# Altium footprint library Mosfet_Pcb.PcbLib: 5 footprints
Each footprint in its own frame and in the unit in brackets; x right, y up, seen from the top. Pads: shape width x height; smd on the part's side, far side on the other; paste and mask are expansions set on the pad; w line width, h text height; cw(c..) or ccw(c..) is an arc to the next point about the centre after c.
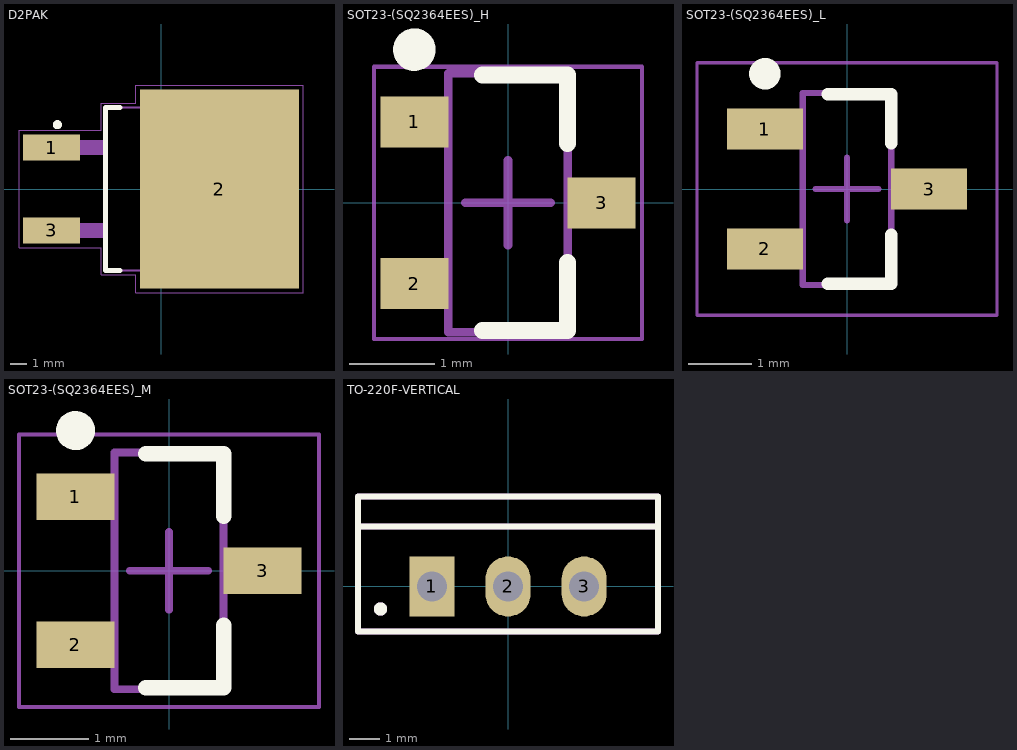
[diagram p0: the footprints below, top view; thin cyan lines are the x and y axes]

## D2PAK [mm]
pads (3):
  rect 3.5x1.6 smd: 1(-6.7,2.54) 3(-6.7,-2.54)
  rect 9.75x12.2 smd paste-7: 2(3.575,0)
Top Overlay:
  circle w0.3: c-6.35,3.937 r0.127
  lines w0.3: -2.515,-5 -3.4,-5 -3.4,5 -2.515,5
Top Paste:
  region: 7.22,0.295 5.85,0.295 5.85,1.765 7.22,1.765
  region: 7.22,-1.766 5.844,-1.766 5.844,-0.295 7.22,-0.295
  region: 5.25,-1.767 3.875,-1.767 3.875,-0.295 5.25,-0.295
  region: 5.25,0.295 3.876,0.295 3.876,1.765 5.25,1.765
  region: 5.25,2.362 3.874,2.362 3.874,3.83 5.25,3.83
  region: 7.22,2.362 5.844,2.362 5.844,3.83 7.22,3.83
  region: 5.25,-3.836 3.876,-3.836 3.876,-2.36 5.25,-2.36
  region: 7.22,-3.837 5.85,-3.837 5.85,-2.36 7.22,-2.36
  region: 1.31,-1.767 -0.07,-1.767 -0.07,-0.295 1.31,-0.295
  region: 1.31,0.296 -0.07,0.296 -0.07,1.765 1.31,1.765
  region: 3.28,0.295 1.902,0.295 1.902,1.765 3.28,1.765
  region: 3.28,-1.766 1.902,-1.766 1.902,-0.295 3.28,-0.295
  region: 3.28,-3.835 1.902,-3.835 1.902,-2.36 3.28,-2.36
  region: 1.31,-3.834 -0.07,-3.834 -0.07,-2.36 1.31,-2.36
  region: 3.28,2.362 1.901,2.362 1.901,3.83 3.28,3.83
  region: 1.31,2.362 -0.07,2.362 -0.07,3.83 1.31,3.83
Mechanical 13:
  region: -3.4,2.094 -8.215,2.094 -8.215,2.99 -3.4,2.99
  region: -3.4,-2.996 -8.216,-2.996 -8.216,-2.09 -3.4,-2.09
  lines w0.127: -3.4,-5 7.4,-5 7.4,5 -3.4,5 -3.4,-5
Mechanical 15:
  lines w0.05: -8.7,-3.6 -3.65,-3.6 -3.65,-5.25 -1.55,-5.25 -1.55,-6.35 8.7,-6.35 8.7,6.35 -1.55,6.35 -1.55,5.25 -3.65,5.25 -3.65,3.6 -8.7,3.6 -8.7,-3.6
3D body "D2PAK-3-lead(TO-263-3).step": height 4.87, standoff 0, extent -7.64,-5.08 6.59,5.08

## SOT23-(SQ2364EES)_H [mm]
height 1.12
pads (3):
  rect 0.8x0.6 smd: 1(-1.1,0.95) 2(-1.1,-0.95) 3(1.1,0)
Top Overlay:
  circle w0.25: c-1.1,1.8 r0.125
  lines w0.2: -0.3,-1.5 0.7,-1.5 0.7,-0.7 ; -0.3,1.5 0.7,1.5 0.7,0.7
Mechanical 13:
  lines w0.1: -0.7,-1.52 -0.7,1.52 0.7,1.52 0.7,-1.52 -0.7,-1.52
  text "'.designator'" at -0.312,1.5 h1
Mechanical 15:
  lines w0.05: -1.575,-1.6 -1.575,1.6 1.575,1.6 1.575,-1.6 -1.575,-1.6
  lines w0.1: -0.5,0 0.5,0 ; 0,-0.5 0,0.5
3D body "SOT23-3.stp": height 1.01, standoff 0.01, extent -1.1,-1.45 1.2,1.45

## SOT23-(SQ2364EES)_L [mm]
height 1.12
pads (3):
  rect 1.2x0.65 smd: 1(-1.3,0.95) 2(-1.3,-0.95) 3(1.3,0)
Top Overlay:
  circle w0.25: c-1.3,1.825 r0.125
  lines w0.2: -0.3,-1.5 0.7,-1.5 0.7,-0.725 ; -0.3,1.5 0.7,1.5 0.7,0.725
Mechanical 13:
  lines w0.1: -0.7,-1.52 0.7,-1.52 0.7,1.52 -0.7,1.52 -0.7,-1.52
  text "'.designator'" at -0.312,1.5 h1
Mechanical 15:
  lines w0.05: -2.375,-2 2.375,-2 2.375,2 -2.375,2 -2.375,-2
  lines w0.1: -0.5,0 0.5,0 ; 0,-0.5 0,0.5
3D body "SOT23-3.stp": height 1.01, standoff 0.01, extent -1.1,-1.45 1.2,1.45

## SOT23-(SQ2364EES)_M [mm]
height 1.12
pads (3):
  rect 1x0.6 smd: 1(-1.2,0.95) 2(-1.2,-0.95) 3(1.2,0)
Top Overlay:
  circle w0.25: c-1.2,1.8 r0.125
  lines w0.2: -0.3,-1.5 0.7,-1.5 0.7,-0.7 ; -0.3,1.5 0.7,1.5 0.7,0.7
Mechanical 13:
  lines w0.1: -0.7,-1.52 -0.7,1.52 0.7,1.52 0.7,-1.52 -0.7,-1.52
  text "'.designator'" at -0.279,1.293 h1
Mechanical 15:
  lines w0.05: -1.925,-1.75 -1.925,1.75 1.925,1.75 1.925,-1.75 -1.925,-1.75
  lines w0.1: -0.5,0 0.5,0 ; 0,-0.5 0,0.5
3D body "SOT23-3.stp": height 1.01, standoff 0.01, extent -1.1,-1.45 1.2,1.45

## TO-220F-VERTICAL [mm]
pads (3):
  rect 1.5x2 hole 1: 1(-2.54,0)
  oval 1.5x2 hole 1: 2(0,0) 3(2.54,0)
Top Overlay:
  circle w0.3: c-4.25,-0.75 r0.071
  lines w0.2: -5,2 5,2 ; -5,-1.5 5,-1.5 5,0 5,3 4,3 -3.5,3 -5,3 -5,0 -5,-1.5
M29:
  circle w0.3: c-4.25,-0.75 r0.071
  lines w0.2: -5,2 5,2 ; -5,-1.5 5,-1.5 5,0 5,3 4,3 -3.5,3 -5,3 -5,0 -5,-1.5
3D body "TO-220F.step": height 18.99, standoff -10.72, extent -5.07,-2.8 5.07,5.087